# Altium schematic symbol library Lithium-Battery-Protection-Module.SchLib: 1 symbol
Pins are listed as number, name and electrical type; pins without a type are passive.

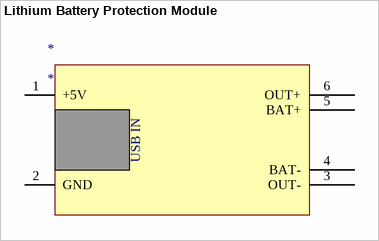
[diagram p0: symbol Lithium Battery Protection Module]

## Lithium Battery Protection Module
designator *
pins: 1 +5V, 2 GND, 3 OUT-, 4 BAT-, 5 BAT+, 6 OUT+
text: USB IN